# Altium footprint library RES-AXIAL-PITCH18.PcbLib: 2 footprints
Each footprint in its own frame and in the unit in brackets; x right, y up, seen from the top. Pads: shape width x height; smd on the part's side, far side on the other; paste and mask are expansions set on the pad; w line width, h text height; cw(c..) or ccw(c..) is an arc to the next point about the centre after c.
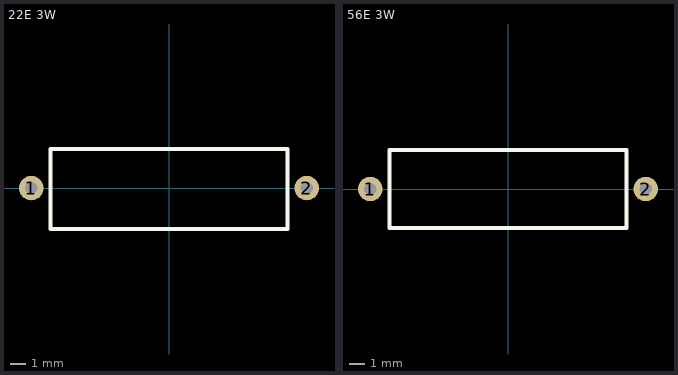
[diagram p0: the footprints below, top view; thin cyan lines are the x and y axes]

## 22E 3W [mm] "22E  3W"
pads (2):
  round 1.6 hole 0.8: 1(-9,0) 2(9,0)
Top Overlay:
  lines w0.254: -7.747,-2.667 -7.747,2.54 7.747,2.54 7.747,-2.667 -7.747,-2.667
3D body "AXIAL_RESISTOR-PITCH18-22E.stp": height 5.21, standoff -2.3, extent -9.4,-2.54 9.4,2.48

## 56E 3W [mm] "56E  3W"
pads (2):
  round 1.6 hole 0.8: 1(-9,0) 2(9,0)
Top Overlay:
  lines w0.254: -7.747,-2.54 7.747,-2.54 7.747,2.54 -7.747,2.54 -7.747,-2.54
3D body "AXIAL_RESISTOR-PITCH18-56E.stp": height 5.21, standoff -2.3, extent -9.402,-2.54 9.398,2.48